# Altium footprint library Mechanical.PcbLib: 3 footprints
Each footprint in its own frame and in the unit in brackets; x right, y up, seen from the top. Pads: shape width x height; smd on the part's side, far side on the other; paste and mask are expansions set on the pad; w line width, h text height; cw(c..) or ccw(c..) is an arc to the next point about the centre after c.
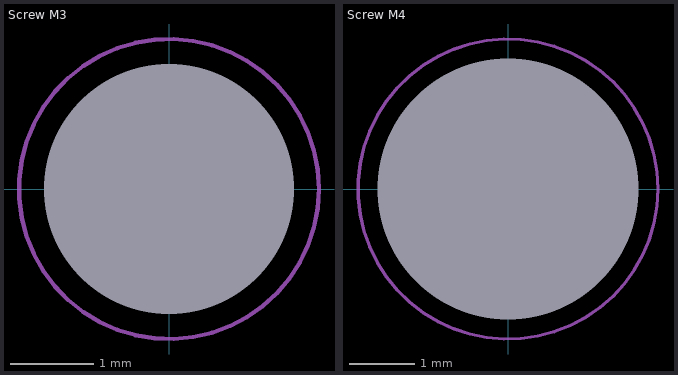
[diagram p0: the footprints below, top view; thin cyan lines are the x and y axes]

## Screw M3 [mm]
pads (1):
  round 0 hole 3: x(0,0)
Cutting Inside:
  circle w0.05: c0,0 r1.8

## Screw M4 [mm]
pads (1):
  round 0 hole 4: x(0,0)
Cutting Inside:
  circle w0.05: c0,0 r2.3

## Washer M6 [mm]
3D body: height 1.8, standoff 0, extent -5.5,-5.498 5.5,5.499